# EAGLE library part 831-3605 (library con-wago_7.62mm)
Serie 831, Stiftleiste (für Leiterplatten) mit geraden Einlötstiften / Series 831, Male header (for PCBs) with straight solder pins Polzahl / Pole No.: 5 Bemessungsspannung / Rated Voltage: 630 V Nennstrom / Nominal Current: 41 A Lötstiftlänge: / Solder Pin Length: 4 mm Farbe / Color: lichtgrau / light gray Stand: 01.01.2012. Die jeweils aktuellen Daten zu diesem Artikel finden Sie in unserem Produktkatalog, den Sie unter www.wago.com einsehen können. As of: 01/01/2012. Please find the newest data for this article in our product catalogue, which can be viewed under www.wago.com.
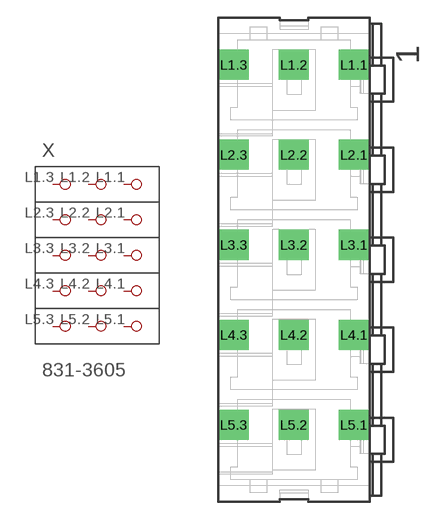
[diagram p3: symbol with the pads of P-831-3605; footprint P-831-3605]

Designator prefix X

## 831-3605  [P-831-3605]
L1.1  P1.1
L1.2  P1.2
L1.3  P1.3
L2.1  P2.1
L2.2  P2.2
L2.3  P2.3
L3.1  P3.1
L3.2  P3.2
L3.3  P3.3
L4.1  P4.1
L4.2  P4.2
L4.3  P4.3
L5.1  P5.1
L5.2  P5.2
L5.3  P5.3

## Footprint P-831-3605 (pad centres in mm)
drill 1.7 square: L1.1 4.08,16.51; L1.2 -1,16.51; L1.3 -6.08,16.51; L2.1 4.08,8.89; L2.2 -1,8.89; L2.3 -6.08,8.89; L3.1 4.08,1.27; L3.2 -1,1.27; L3.3 -6.08,1.27; L4.1 4.08,-6.35; L4.2 -1,-6.35; L4.3 -6.08,-6.35; L5.1 4.07,-13.97; L5.2 -1.01,-13.97; L5.3 -6.09,-13.97